# EAGLE library part IS42S16160J-6BLI (library S26KS512SDPBHI020)
DRAM 256M, 3.3V, SDRAM, 16Mx16, 166Mhz, 54 ball BGA (8mmx8mm) RoHS, IT Source: Datasheet <https://componentsearchengine.com/Datasheets/1/IS42S16160J-6BLI.pdf>
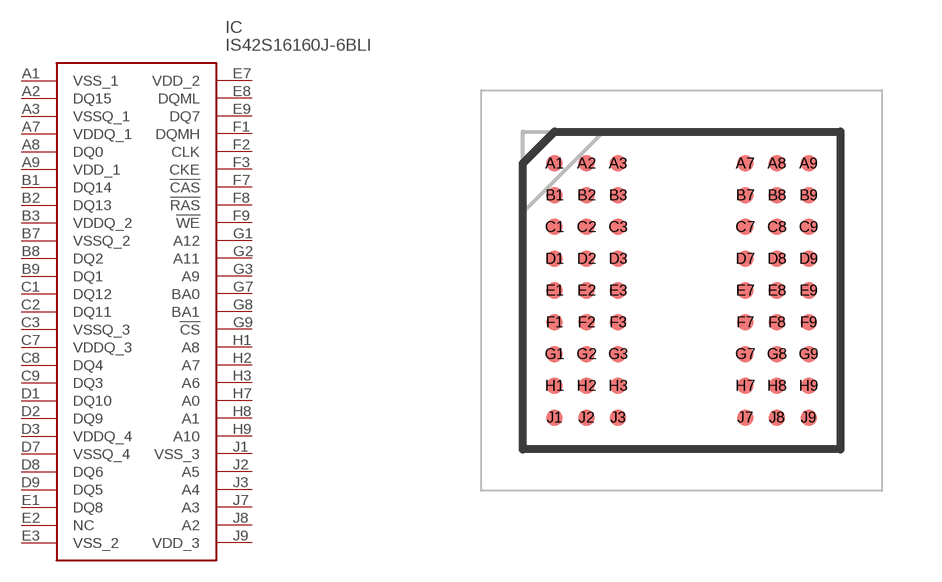
[diagram p0: symbol with the pads of BGA54C80P9X9_800X800X120; footprint BGA54C80P9X9_800X800X120]

Designator prefix IC

## IS42S16160J-6BLI (DESCRIPTION: DRAM 256M, 3.3V, SDRAM, 16Mx16, 166Mhz, 54 ball BGA (8mmx8mm) RoHS, IT; HEIGHT: 1.2mm; MANUFACTURER_NAME: Integrated Silicon Solution Inc.; MANUFACTURER_PART_NUMBER: IS42S16160J-6BLI; MOUSER_PART_NUMBER: 870-42S16160J6BLI; MOUSER_PRICE-STOCK: https://www.mouser.com/Search/Refine.aspx?Keyword=870-42S16160J6BLI)  [BGA54C80P9X9_800X800X120]
A1  VSS_1
A2  DQ15
A3  VSSQ_1
A7  VDDQ_1
A8  DQ0
A9  VDD_1
B1  DQ14
B2  DQ13
B3  VDDQ_2
B7  VSSQ_2
B8  DQ2
B9  DQ1
C1  DQ12
C2  DQ11
C3  VSSQ_3
C7  VDDQ_3
C8  DQ4
C9  DQ3
D1  DQ10
D2  DQ9
D3  VDDQ_4
D7  VSSQ_4
D8  DQ6
D9  DQ5
E1  DQ8
E2  NC  nc
E3  VSS_2
E7  VDD_2
E8  DQML
E9  DQ7
F1  DQMH
F2  CLK
F3  CKE
F7  !CAS
F8  !RAS
F9  !WE
G1  A12
G2  A11
G3  A9
G7  BA0
G8  BA1
G9  !CS
H1  A8
H2  A7
H3  A6
H7  A0
H8  A1
H9  A10
J1  VSS_3
J2  A5
J3  A4
J7  A3
J8  A2
J9  VDD_3

## Footprint BGA54C80P9X9_800X800X120 (pad centres in mm)
TF-BGA 54 LEAD
smd 0.41 x 0.41: A1 -3.2,3.2; A2 -2.4,3.2; A3 -1.6,3.2; A7 1.6,3.2; A8 2.4,3.2; A9 3.2,3.2; B1 -3.2,2.4; B2 -2.4,2.4; B3 -1.6,2.4; B7 1.6,2.4; B8 2.4,2.4; B9 3.2,2.4; C1 -3.2,1.6; C2 -2.4,1.6; C3 -1.6,1.6; C7 1.6,1.6; C8 2.4,1.6; C9 3.2,1.6; D1 -3.2,0.8; D2 -2.4,0.8; D3 -1.6,0.8; D7 1.6,0.8; D8 2.4,0.8; D9 3.2,0.8; E1 -3.2,0; E2 -2.4,0; E3 -1.6,0; E7 1.6,0; E8 2.4,0; E9 3.2,0; F1 -3.2,-0.8; F2 -2.4,-0.8; F3 -1.6,-0.8; F7 1.6,-0.8; F8 2.4,-0.8; F9 3.2,-0.8; G1 -3.2,-1.6; G2 -2.4,-1.6; G3 -1.6,-1.6; G7 1.6,-1.6; G8 2.4,-1.6; G9 3.2,-1.6; H1 -3.2,-2.4; H2 -2.4,-2.4; H3 -1.6,-2.4; H7 1.6,-2.4; H8 2.4,-2.4; H9 3.2,-2.4; J1 -3.2,-3.2; J2 -2.4,-3.2; J3 -1.6,-3.2; J7 1.6,-3.2; J8 2.4,-3.2; J9 3.2,-3.2